# EAGLE library part SIA929DJ (library Railstars)
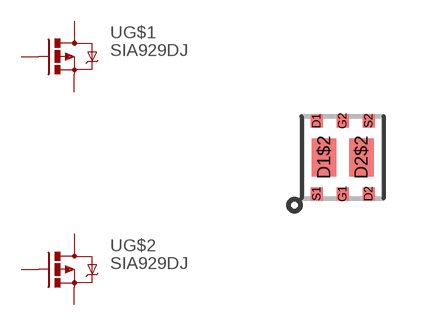
[diagram p37: symbol with the pads of SC70-6L; footprint SC70-6L]

Designator prefix -; gates G$1=MOSFET-PCHANNEL G$2=MOSFET-PCHANNEL

## SIA929DJ  [SC70-6L]
D1  G$1:D  pas
D1$2  G$1:D  pas
D2  G$2:D  pas
D2$2  G$2:D  pas
G1  G$1:G  pas
G2  G$2:G  pas
S1  G$1:S  pas
S2  G$2:S  pas

## Footprint SC70-6L (pad centres in mm)
smd 0.3 x 0.325: D1 -0.65,0.912; D2 0.65,-0.912; G1 0,-0.912; G2 0,0.912; S1 -0.65,-0.912; S2 0.65,0.912
smd 0.613 x 0.95: D1$2 -0.467,0; D2$2 0.467,0